# Altium schematic symbol library SCH - POWER - SWITCHMODE - TI TPS563200.SchLib: 1 symbol
Pins are listed as number, name and electrical type; pins without a type are passive.

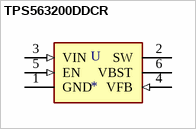
[diagram p0: symbol TPS563200DDCR]

## TPS563200DDCR
designator U
Buck Switching Regulator IC Positive Adjustable 0.76V 1 Output 3A SOT-23-6 Thin, TSOT-23-6; MF: Texas Instruments; MP: TPS563200DDCR; Package: TSOT-23 Texas Instruments; Value: *; Price: None; SnapEDA_Link: https://www.snapeda.com/parts/TPS563200DDCR/Texas%20Instruments/view-part/71685/?ref=snap; Availability: Unavailable
footprint SOT95P280X110-6N
pins: 1 GND (power), 2 SW, 3 VIN (in), 4 VFB (in), 5 EN (in), 6 VBST